# EAGLE library part BU5424-R (library LEDMATRIX)
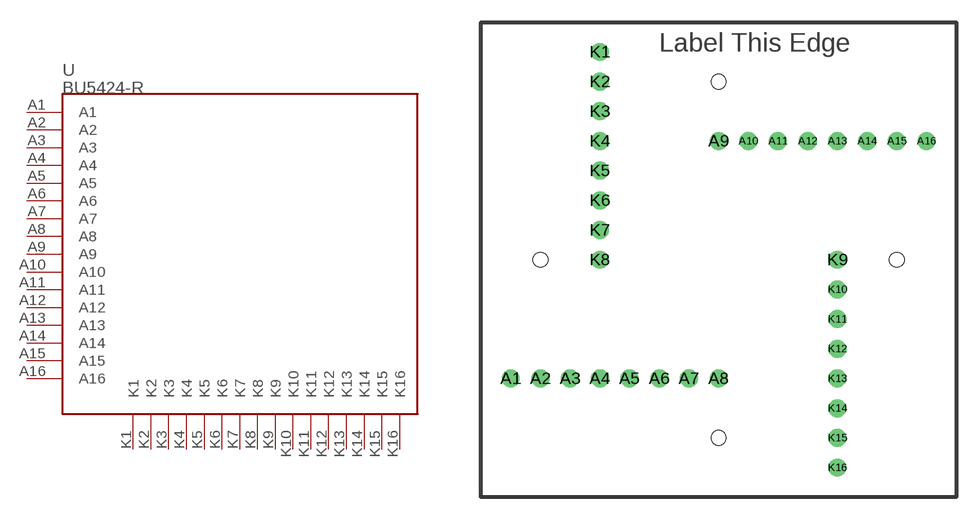
[diagram p0: symbol with the pads of BU5424; footprint BU5424]

Designator prefix -

## BU5424-R  [BU5424]
A1  A1
A2  A2
A3  A3
A4  A4
A5  A5
A6  A6
A7  A7
A8  A8
A9  A9
A10  A10
A11  A11
A12  A12
A13  A13
A14  A14
A15  A15
A16  A16
K1  K1
K2  K2
K3  K3
K4  K4
K5  K5
K6  K6
K7  K7
K8  K8
K9  K9
K10  K10
K11  K11
K12  K12
K13  K13
K14  K14
K15  K15
K16  K16

## Footprint BU5424 (pad centres in mm)
drill 0.7 round: A1 -14,-8; A2 -12,-8; A3 -10,-8; A4 -8,-8; A5 -6,-8; A6 -4,-8; A7 -2,-8; A8 0,-8; A9 0,8; A10 2,8; A11 4,8; A12 6,8; A13 8,8; A14 10,8; A15 12,8; A16 14,8; K1 -8,14; K2 -8,12; K3 -8,10; K4 -8,8; K5 -8,6; K6 -8,4; K7 -8,2; K8 -8,0; K9 8,0; K10 8,-2; K11 8,-4; K12 8,-6; K13 8,-8; K14 8,-10; K15 8,-12; K16 8,-14
hole 1 at 12,0
hole 1 at -12,0
hole 1 at 0,12
hole 1 at 0,-12